# EAGLE library part TPS71933-33DVR (library TI_TPS)
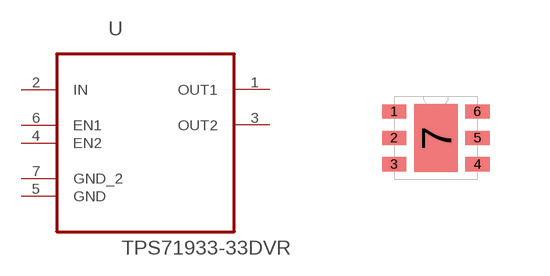
[diagram p4: symbol with the pads of SON65P210X210X80-7N; footprint SON65P210X210X80-7N]

Designator prefix -

## TPS71933-33DVR  [SON65P210X210X80-7N]
1  OUT1  out
2  IN  pwr
3  OUT2  out
4  EN2  in
5  GND  pas
6  EN1  in
7  GND_2  pas

## Footprint SON65P210X210X80-7N (pad centres in mm)
smd 0.61 x 0.356: 1 -1.041,0.66; 2 -1.041,0; 3 -1.041,-0.66; 4 1.041,-0.66; 5 1.041,0; 6 1.041,0.66
smd 1.092 x 1.702: 7 0,0